# Altium schematic symbol library Резонаторы.SchLib: 10 symbols
Pins are listed as number, name and electrical type; pins without a type are passive.

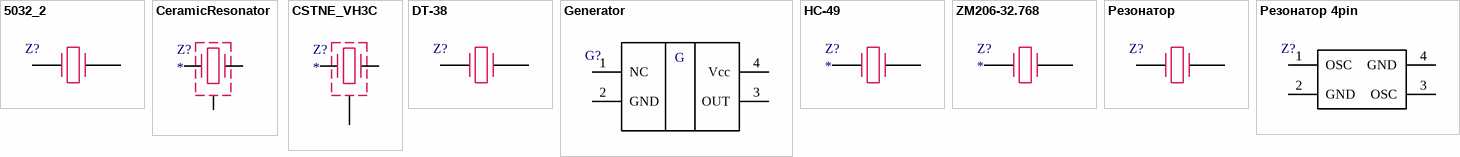
[diagram p0: symbols 5032_2 to Резонатор 4pin]

## 5032_2
designator Z?, comment ***  (value not drawn)
Rem: *; Package: *; Value: *; Tolerance: *; Power/Voltage: *; TKE: *; ManufacturerPartNumber: *; Manufacturer: *; Quantity: *; Примечание: *; Price: *
footprint 5032_2
pins: 1, 2

## CeramicResonator
designator Z?
CeramicResonator
footprint CSTNE_VH3C
pins: 1, 2, 3

## CSTNE_VH3C
designator Z?
CSTNE_VH3C
footprint CSTNE_VH3C
pins: 1, 2, 3

## DT-38
designator Z?, comment 32.768  (value not drawn)
Rem: *; Package: *; Value: 32.768; Tolerance: *; Power/Voltage: *; TKE: *; ManufacturerPartNumber: *; Manufacturer: *; Quantity: *; Примечание: *
footprint DT_38
pins: 1, 2

## Generator
designator G?  (value not drawn)
pins: 1 NC, 2 GND, 3 OUT, 4 Vcc
text: G

## HC-49
designator Z?
pins: 1, 2

## ZM206-32.768
designator Z?
ZM206-32.768-12.5pf
footprint ZM206_32K768
pins: 1, 4

## Резонатор
designator Z?  (value not drawn)
pins: 1, 2

## Резонатор 4pin
designator Z?, comment ***  (value not drawn)
Резонатор 4pin; Rem: *; Package: *; Value: *; Tolerance: *; Power/Voltage: *; TKE: *; ManufacturerPartNumber: *; Manufacturer: *; Quantity: *; Примечание: *; Price: *
pins: 1 OSC, 2 GND, 3 OSC, 4 GND

## РЫБА_1
designator Z?, comment ***  (value not drawn)
Rem: *; Package: *; Value: *; Tolerance: *; Power/Voltage: *; TKE: *; ManufacturerPartNumber: *; Manufacturer: *; Quantity: *; Примечание: *; Price: *